# Altium schematic symbol library conn_header_2mm_st.SchLib: 48 symbols
Pins are listed as number, name and electrical type; pins without a type are passive.

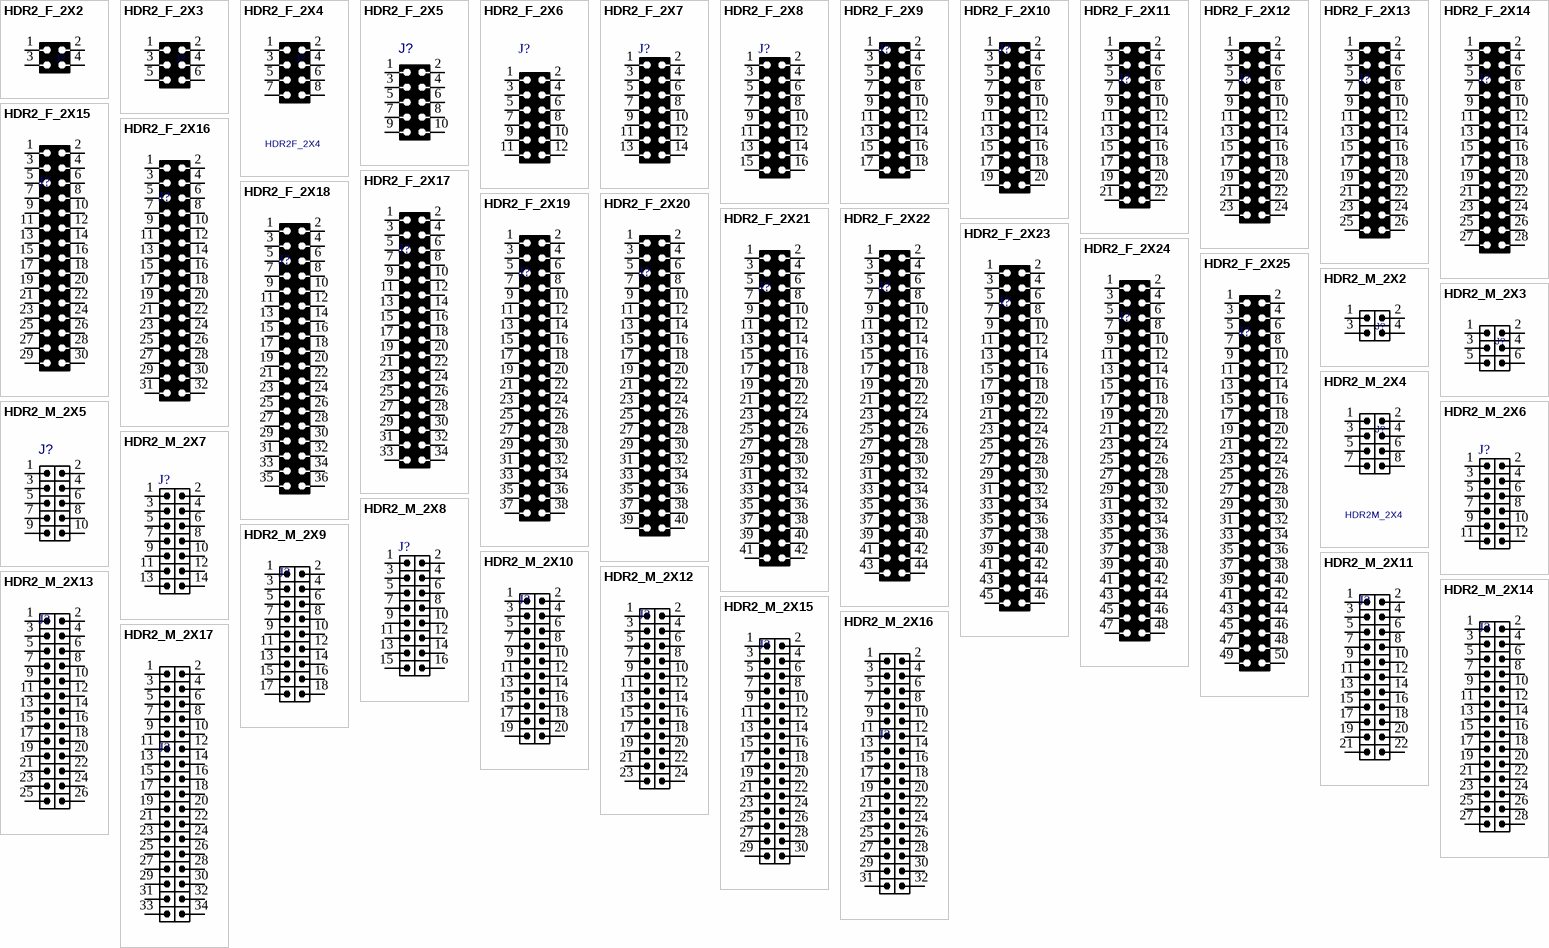
[diagram p0: symbols HDR2_F_2X2 to HDR2_M_2X17]

## HDR2_F_2X2
designator J?, comment HDR2F_2X2  (value not drawn)
CONN, HEADER, Female, pitch: 2mm, 4POS; MANF_P#: MANF_PART#; MANF: MANF; VALUE: HDR2F_2X2
footprint HDR2_F_2X2 (Connector; Header; 2mm Pitch)
pins: 1, 2, 3, 4

## HDR2_F_2X3
designator J?, comment HDR2F_2X3  (value not drawn)
CONN, HEADER, Female, pitch: 2mm, 6POS; MANF_P#: MANF_PART#; MANF: MANF; VALUE: HDR2F_2X3
footprint HDR2_F_2X3 (Connector; Header; 2mm Pitch)
pins: 1, 2, 3, 4, 5, 6

## HDR2_F_2X4
designator J?, comment HDR2F_2X4
CONN, HEADER, Female, pitch: 2mm, 8POS; MANF_P#: MANF_PART#; MANF: MANF; VALUE: HDR2F_2X4
footprint HDR2_F_2X4 (Connector; Header; 2mm Pitch)
pins: 1, 2, 3, 4, 5, 6, 7, 8

## HDR2_F_2X5
designator J?, comment HDR2F_2X5  (value not drawn)
CONN, HEADER, Female, pitch: 2mm, 10POS; VALUE: HDR2F_2X5
footprint HDR2_F_2X5 (Connector; Header; 2mm Pitch)
pins: 1, 2, 3, 4, 5, 6, 7, 8, 9, 10

## HDR2_F_2X6
designator J?, comment HDR2F_2X6  (value not drawn)
CONN, HEADER, Female, pitch: 2mm; VALUE: HDR2F_2X6
footprint HDR2_F_2X6 (Connector; Header; 2mm Pitch)
pins: 1, 2, 3, 4, 5, 6, 7, 8, 9, 10, 11, 12

## HDR2_F_2X7
designator J?, comment HDR2F_2X7  (value not drawn)
CONN, HEADER, Female, pitch: 2mm,; VALUE: HDR2F_2X7
footprint HDR2_F_2X7 (Connector; Header; 2mm Pitch)
pins: 1, 2, 3, 4, 5, 6, 7, 8, 9, 10, 11, 12, 13, 14

## HDR2_F_2X8
designator J?, comment HDR2F_2X8  (value not drawn)
CONN, HEADER, Female, pitch: 2mm, 16POS; VALUE: HDR2F_2X8
footprint HDR2_F_2X8 (Connector; Header; 2mm Pitch)
pins: 1, 2, 3, 4, 5, 6, 7, 8, 9, 10, 11, 12, 13, 14, 15, 16

## HDR2_F_2X9
designator J?, comment HDR2F_2X9  (value not drawn)
CONN, HEADER, Female, pitch: 2mm,; VALUE: HDR2F_2X9
footprint HDR2_F_2X9 (Connector; Header; 2mm Pitch)
pins: 1, 2, 3, 4, 5, 6, 7, 8, 9, 10, 11, 12, 13, 14, 15, 16, 17, 18

## HDR2_F_2X10
designator J?, comment HDR2F_2X10  (value not drawn)
CONN, HEADER, Female, pitch: 2mm, 20POS; VALUE: HDR2F_2X10
footprint HDR2_F_2X10 (Connector; Header; 2mm Pitch)
pins: 1, 2, 3, 4, 5, 6, 7, 8, 9, 10, 11, 12, 13, 14, 15, 16, 17, 18, 19, 20

## HDR2_F_2X11
designator J?, comment HDR2F_2X11  (value not drawn)
CONN, HEADER, Female, pitch: 2mm,; VALUE: HDR2F_2X11
footprint HDR2_F_2X11 (Connector; Header; 2mm Pitch)
pins: 1, 2, 3, 4, 5, 6, 7, 8, 9, 10, 11, 12, 13, 14, 15, 16, 17, 18, 19, 20, 21, 22

## HDR2_F_2X12
designator J?, comment HDR2F_2X12  (value not drawn)
CONN, HEADER, Female, pitch: 2mm,; VALUE: HDR2F_2X12
footprint HDR2_F_2X12 (Connector; Header; 2mm Pitch)
pins: 1, 2, 3, 4, 5, 6, 7, 8, 9, 10, 11, 12, 13, 14, 15, 16, 17, 18, 19, 20, 21, 22, 23, 24

## HDR2_F_2X13
designator J?, comment HDR2F_2X13  (value not drawn)
CONN, HEADER, Female, pitch: 2mm,; VALUE: HDR2F_2X13
footprint HDR2_F_2X13 (Connector; Header; 2mm Pitch)
pins: 1, 2, 3, 4, 5, 6, 7, 8, 9, 10, 11, 12, 13, 14, 15, 16, 17, 18, 19, 20, 21, 22, 23, 24, 25, 26

## HDR2_F_2X14
designator J?, comment HDR2F_2X14  (value not drawn)
CONN, HEADER, Female, pitch: 2mm,; VALUE: HDR2F_2X14
footprint HDR2_F_2X14 (Connector; Header; 2mm Pitch)
pins: 1, 2, 3, 4, 5, 6, 7, 8, 9, 10, 11, 12, 13, 14, 15, 16, 17, 18, 19, 20, 21, 22, 23, 24, 25, 26, 27, 28

## HDR2_F_2X15
designator J?, comment HDR2F_2X15  (value not drawn)
CONN, HEADER, Female, pitch: 2mm, 30POS; VALUE: HDR2F_2X15
footprint HDR2_F_2X15 (Footprint not found)
pins: 1, 2, 3, 4, 5, 6, 7, 8, 9, 10, 11, 12, 13, 14, 15, 16, 17, 18, 19, 20, 21, 22, 23, 24, 25, 26, 27, 28, 29, 30

## HDR2_F_2X16
designator J?, comment HDR2F_2X16  (value not drawn)
CONN, HEADER, Female, pitch: 2mm,; VALUE: HDR2F_2X16
footprint HDR2_F_2X16 (Connector; Header; 2mm Pitch)
pins: 1, 2, 3, 4, 5, 6, 7, 8, 9, 10, 11, 12, 13, 14, 15, 16, 17, 18, 19, 20, 21, 22, 23, 24, 25, 26, 27, 28, 29, 30, 31, 32

## HDR2_F_2X17
designator J?, comment HDR2F_2X17  (value not drawn)
CONN, HEADER, Female, pitch: 2mm,; VALUE: HDR2F_2X17
footprint HDR2_F_2X17 (Connector; Header; 2mm Pitch)
pins: 1, 2, 3, 4, 5, 6, 7, 8, 9, 10, 11, 12, 13, 14, 15, 16, 17, 18, 19, 20, 21, 22, 23, 24, 25, 26, 27, 28, 29, 30, 31, 32, 33, 34

## HDR2_F_2X18
designator J?, comment HDR2F_2X18  (value not drawn)
CONN, HEADER, Female, pitch: 2mm,; VALUE: HDR2F_2X18
footprint HDR2_F_2X18 (Connector; Header; 2mm Pitch)
pins: 1, 2, 3, 4, 5, 6, 7, 8, 9, 10, 11, 12, 13, 14, 15, 16, 17, 18, 19, 20, 21, 22, 23, 24, 25, 26, 27, 28, 29, 30, 31, 32, 33, 34, 35, 36

## HDR2_F_2X19
designator J?, comment HDR2F_2X19  (value not drawn)
CONN, HEADER, Female, pitch: 2mm,; VALUE: HDR2F_2X19
footprint HDR2_F_2X19 (Connector; Header; 2mm Pitch)
pins: 1, 2, 3, 4, 5, 6, 7, 8, 9, 10, 11, 12, 13, 14, 15, 16, 17, 18, 19, 20, 21, 22, 23, 24, 25, 26, 27, 28, 29, 30, 31, 32, 33, 34, 35, 36, 37, 38

## HDR2_F_2X20
designator J?, comment HDR2F_2X20  (value not drawn)
CONN, HEADER, Female, pitch: 2mm,; VALUE: HDR2F_2X20
footprint HDR2_F_2X20 (Connector; Header; 2mm Pitch)
pins: 1, 2, 3, 4, 5, 6, 7, 8, 9, 10, 11, 12, 13, 14, 15, 16, 17, 18, 19, 20, 21, 22, 23, 24, 25, 26, 27, 28, 29, 30, 31, 32, 33, 34, 35, 36, 37, 38, 39, 40

## HDR2_F_2X21
designator J?, comment HDR2F_2X21  (value not drawn)
CONN, HEADER, Female, pitch: 2mm,; VALUE: HDR2F_2X21
footprint HDR2_F_2X21 (Connector; Header; 2mm Pitch)
pins: 1, 2, 3, 4, 5, 6, 7, 8, 9, 10, 11, 12, 13, 14, 15, 16, 17, 18, 19, 20, 21, 22, 23, 24, 25, 26, 27, 28, 29, 30, 31, 32, 33, 34, 35, 36, 37, 38, 39, 40, 41, 42

## HDR2_F_2X22
designator J?, comment HDR2F_2X22  (value not drawn)
CONN, HEADER, Female, pitch: 2mm, 44POS; VALUE: HDR2F_2X22
footprint HDR2_F_2X22 (Connector; Header; 2mm Pitch)
pins: 1, 2, 3, 4, 5, 6, 7, 8, 9, 10, 11, 12, 13, 14, 15, 16, 17, 18, 19, 20, 21, 22, 23, 24, 25, 26, 27, 28, 29, 30, 31, 32, 33, 34, 35, 36, 37, 38, 39, 40, 41, 42, 43, 44

## HDR2_F_2X23
designator J?, comment HDR2F_2X23  (value not drawn)
CONN, HEADER, Female, pitch: 2mm, 46POS; VALUE: HDR2F_2X23
footprint HDR2_F_2X23 (Connector; Header; 2mm Pitch)
pins: 1, 2, 3, 4, 5, 6, 7, 8, 9, 10, 11, 12, 13, 14, 15, 16, 17, 18, 19, 20, 21, 22, 23, 24, 25, 26, 27, 28, 29, 30, 31, 32, 33, 34, 35, 36, 37, 38, 39, 40, 41, 42, 43, 44, 45, 46

## HDR2_F_2X24
designator J?, comment HDR2F_2X24  (value not drawn)
CONN, HEADER, Female, pitch: 2mm,; VALUE: HDR2F_2X24
footprint HDR2_F_2X24 (Connector; Header; 2mm Pitch)
pins: 1, 2, 3, 4, 5, 6, 7, 8, 9, 10, 11, 12, 13, 14, 15, 16, 17, 18, 19, 20, 21, 22, 23, 24, 25, 26, 27, 28, 29, 30, 31, 32, 33, 34, 35, 36, 37, 38, 39, 40, 41, 42, 43, 44, 45, 46, 47, 48

## HDR2_F_2X25
designator J?, comment HDR2F_2X25  (value not drawn)
CONN, HEADER, Female, pitch: 2mm,; VALUE: HDR2F_2X25
footprint HDR2_F_2X25 (Connector; Header; 2mm Pitch)
pins: 1, 2, 3, 4, 5, 6, 7, 8, 9, 10, 11, 12, 13, 14, 15, 16, 17, 18, 19, 20, 21, 22, 23, 24, 25, 26, 27, 28, 29, 30, 31, 32, 33, 34, 35, 36, 37, 38, 39, 40, 41, 42, 43, 44, 45, 46, 47, 48, 49, 50

## HDR2_M_2X2
designator J?, comment HDR2M_2X2  (value not drawn)
CONN, HEADER, Male, pitch: 2mm, 4POS; MANF_P#: MANF_PART#; MANF: MANF; VALUE: HDR2M_2X2
footprint HDR2_M_2X2 (Connector; Header; 2mm Pitch)
pins: 1, 2, 3, 4

## HDR2_M_2X3
designator J?, comment HDR2M_2X3  (value not drawn)
CONN, HEADER, Male, pitch: 2mm, 6POS; MANF_P#: MANF_PART#; MANF: MANF; VALUE: HDR2M_2X3
footprint HDR2_M_2X3 (Connector; Header; 2mm Pitch)
pins: 1, 2, 3, 4, 5, 6

## HDR2_M_2X4
designator J?, comment HDR2M_2X4
CONN, HEADER, Male, pitch: 2mm, 8POS; MANF_P#: MANF_PART#; MANF: MANF; VALUE: HDR2M_2X4
footprint HDR2_M_2X4 (Connector; Header; 2mm Pitch)
pins: 1, 2, 3, 4, 5, 6, 7, 8

## HDR2_M_2X5
designator J?, comment HDR2M_2X5  (value not drawn)
CONN, HEADER, Male, pitch: 2mm, 10POS; VALUE: HDR2M_2X5
footprint HDR2_M_2X5 (Connector; Header; 2mm Pitch)
pins: 1, 2, 3, 4, 5, 6, 7, 8, 9, 10

## HDR2_M_2X6
designator J?, comment HDR2M_2X6  (value not drawn)
CONN, HEADER, Male, pitch: 2mm,; VALUE: HDR2M_2X6
footprint HDR2_M_2X6 (Connector; Header; 2mm Pitch)
pins: 1, 2, 3, 4, 5, 6, 7, 8, 9, 10, 11, 12

## HDR2_M_2X7
designator J?, comment HDR2M_2X7  (value not drawn)
CONN, HEADER, Male, pitch: 2mm,; VALUE: HDR2M_2X7
footprint HDR2_M_2X7 (Connector; Header; 2mm Pitch)
pins: 1, 2, 3, 4, 5, 6, 7, 8, 9, 10, 11, 12, 13, 14

## HDR2_M_2X8
designator J?, comment HDR2M_2X8  (value not drawn)
CONN, HEADER, Male, pitch: 2mm, 16POS; VALUE: HDR2M_2X8
footprint HDR2_M_2X8 (Connector; Header; 2mm Pitch)
pins: 1, 2, 3, 4, 5, 6, 7, 8, 9, 10, 11, 12, 13, 14, 15, 16

## HDR2_M_2X9
designator J?, comment HDR2M_2X9  (value not drawn)
CONN, HEADER, Male, pitch: 2mm,; VALUE: HDR2M_2X9
footprint HDR2_M_2X9 (Connector; Header; 2mm Pitch)
pins: 1, 2, 3, 4, 5, 6, 7, 8, 9, 10, 11, 12, 13, 14, 15, 16, 17, 18

## HDR2_M_2X10
designator J?, comment HDR2M_2X10  (value not drawn)
CONN, HEADER, Male, pitch: 2mm, 20POS; VALUE: HDR2M_2X10
footprint HDR2_M_2X10 (Connector; Header; 2mm Pitch)
pins: 1, 2, 3, 4, 5, 6, 7, 8, 9, 10, 11, 12, 13, 14, 15, 16, 17, 18, 19, 20

## HDR2_M_2X11
designator J?, comment HDR2M_2X11  (value not drawn)
CONN, HEADER, Male, pitch: 2mm,; VALUE: HDR2M_2X11
footprint HDR2_M_2X11 (Connector; Header; 2mm Pitch)
pins: 1, 2, 3, 4, 5, 6, 7, 8, 9, 10, 11, 12, 13, 14, 15, 16, 17, 18, 19, 20, 21, 22

## HDR2_M_2X12
designator J?, comment HDR2M_2X12  (value not drawn)
CONN, HEADER, Male, pitch: 2mm,; VALUE: HDR2M_2X12
footprint HDR2_M_2X12 (Connector; Header; 2mm Pitch)
pins: 1, 2, 3, 4, 5, 6, 7, 8, 9, 10, 11, 12, 13, 14, 15, 16, 17, 18, 19, 20, 21, 22, 23, 24

## HDR2_M_2X13
designator J?, comment HDR2M_2X13  (value not drawn)
CONN, HEADER, Male, pitch: 2mm,; VALUE: HDR2M_2X13
footprint HDR2_M_2X13 (Connector; Header; 2mm Pitch)
pins: 1, 2, 3, 4, 5, 6, 7, 8, 9, 10, 11, 12, 13, 14, 15, 16, 17, 18, 19, 20, 21, 22, 23, 24, 25, 26

## HDR2_M_2X14
designator J?, comment HDR2M_2X14  (value not drawn)
CONN, HEADER, Male, pitch: 2mm,; VALUE: HDR2M_2X14
footprint HDR2_M_2X14 (Connector; Header; 2mm Pitch)
pins: 1, 2, 3, 4, 5, 6, 7, 8, 9, 10, 11, 12, 13, 14, 15, 16, 17, 18, 19, 20, 21, 22, 23, 24, 25, 26, 27, 28

## HDR2_M_2X15
designator J?, comment HDR2M_2X15  (value not drawn)
CONN, HEADER, Male, pitch: 2mm, 30POS; VALUE: HDR2M_2X15
footprint HDR2_M_2X15 (Connector; Header; 2mm Pitch)
pins: 1, 2, 3, 4, 5, 6, 7, 8, 9, 10, 11, 12, 13, 14, 15, 16, 17, 18, 19, 20, 21, 22, 23, 24, 25, 26, 27, 28, 29, 30

## HDR2_M_2X16
designator J?  (value not drawn)
CONN, HEADER, Male, pitch: 2mm,; VALUE: HDR2_M_2X16
footprint HDR2_M_2X16 (Connector; Header; 16x2 Position; 2mm Pitch)
pins: 1, 2, 3, 4, 5, 6, 7, 8, 9, 10, 11, 12, 13, 14, 15, 16, 17, 18, 19, 20, 21, 22, 23, 24, 25, 26, 27, 28, 29, 30, 31, 32

## HDR2_M_2X17
designator J?  (value not drawn)
CONN, HEADER, Male, pitch: 2mm,; VALUE: HDR2_M_2X17
footprint HDR2_M_2X17 (Connector; Header; 2mm Pitch)
pins: 1, 2, 3, 4, 5, 6, 7, 8, 9, 10, 11, 12, 13, 14, 15, 16, 17, 18, 19, 20, 21, 22, 23, 24, 25, 26, 27, 28, 29, 30, 31, 32, 33, 34

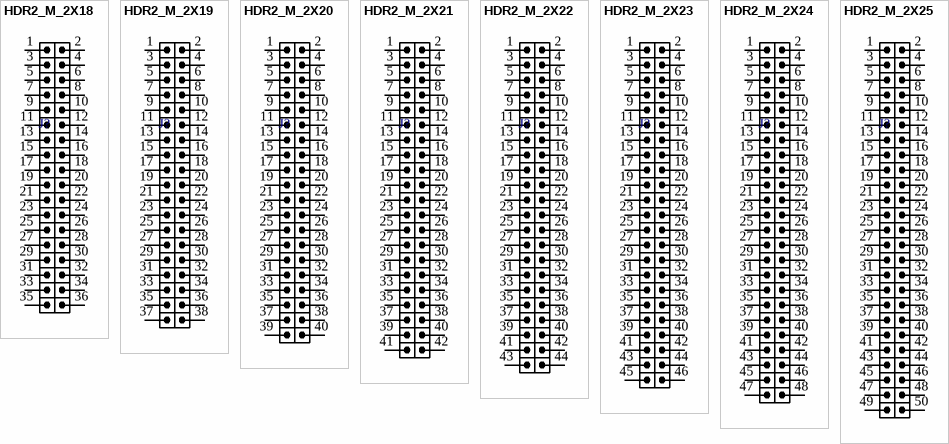
[diagram p1: symbols HDR2_M_2X18 to HDR2_M_2X25]

## HDR2_M_2X18
designator J?  (value not drawn)
CONN, HEADER, Male, pitch: 2mm,; VALUE: HDR2_M_2X18
footprint HDR2_M_2X18 (Connector; Header; 2mm Pitch)
pins: 1, 2, 3, 4, 5, 6, 7, 8, 9, 10, 11, 12, 13, 14, 15, 16, 17, 18, 19, 20, 21, 22, 23, 24, 25, 26, 27, 28, 29, 30, 31, 32, 33, 34, 35, 36

## HDR2_M_2X19
designator J?  (value not drawn)
CONN, HEADER, Male, pitch: 2mm,; VALUE: HDR2_M_2X19
footprint HDR2_M_2X19 (Connector; Header; 2mm Pitch)
pins: 1, 2, 3, 4, 5, 6, 7, 8, 9, 10, 11, 12, 13, 14, 15, 16, 17, 18, 19, 20, 21, 22, 23, 24, 25, 26, 27, 28, 29, 30, 31, 32, 33, 34, 35, 36, 37, 38

## HDR2_M_2X20
designator J?  (value not drawn)
CONN, HEADER, Male, pitch: 2mm,; VALUE: HDR2_M_2X20
footprint HDR2_M_2X20 (Connector; Header; 20x2 Position; 2mm Pitch)
pins: 1, 2, 3, 4, 5, 6, 7, 8, 9, 10, 11, 12, 13, 14, 15, 16, 17, 18, 19, 20, 21, 22, 23, 24, 25, 26, 27, 28, 29, 30, 31, 32, 33, 34, 35, 36, 37, 38, 39, 40

## HDR2_M_2X21
designator J?  (value not drawn)
CONN, HEADER, Male, pitch: 2mm,; VALUE: HDR2_M_2X21
footprint HDR2_M_2X21 (Connector; Header; 21x2 Position; 2mm Pitch)
pins: 1, 2, 3, 4, 5, 6, 7, 8, 9, 10, 11, 12, 13, 14, 15, 16, 17, 18, 19, 20, 21, 22, 23, 24, 25, 26, 27, 28, 29, 30, 31, 32, 33, 34, 35, 36, 37, 38, 39, 40, 41, 42

## HDR2_M_2X22
designator J?  (value not drawn)
CONN, HEADER, Male, pitch: 2mm, 44POS; VALUE: HDR2_M_2X22
footprint HDR2_M_2X22 (Connector; Header; 22x2 Position; 2mm Pitch)
pins: 1, 2, 3, 4, 5, 6, 7, 8, 9, 10, 11, 12, 13, 14, 15, 16, 17, 18, 19, 20, 21, 22, 23, 24, 25, 26, 27, 28, 29, 30, 31, 32, 33, 34, 35, 36, 37, 38, 39, 40, 41, 42, 43, 44

## HDR2_M_2X23
designator J?  (value not drawn)
CONN, HEADER, Male, pitch: 2mm, 46POS; VALUE: HDR2_M_2X23
footprint HDR2_M_2X23 (Connector; Header; 23x2 Position; 2mm Pitch)
pins: 1, 2, 3, 4, 5, 6, 7, 8, 9, 10, 11, 12, 13, 14, 15, 16, 17, 18, 19, 20, 21, 22, 23, 24, 25, 26, 27, 28, 29, 30, 31, 32, 33, 34, 35, 36, 37, 38, 39, 40, 41, 42, 43, 44, 45, 46

## HDR2_M_2X24
designator J?  (value not drawn)
CONN, HEADER, Male, pitch: 2mm, 48POS; VALUE: HDR2_M_2X24
footprint HDR2_M_2X24 (Connector; Header; 24x2 Position; 2mm Pitch)
pins: 1, 2, 3, 4, 5, 6, 7, 8, 9, 10, 11, 12, 13, 14, 15, 16, 17, 18, 19, 20, 21, 22, 23, 24, 25, 26, 27, 28, 29, 30, 31, 32, 33, 34, 35, 36, 37, 38, 39, 40, 41, 42, 43, 44, 45, 46, 47, 48

## HDR2_M_2X25
designator J?  (value not drawn)
CONN, HEADER, Male, pitch: 2mm, 50POS; VALUE: HDR2_M_2X25
footprint HDR2_M_2X25 (Connector; Header; 25x2 Position; 2mm Pitch)
pins: 1, 2, 3, 4, 5, 6, 7, 8, 9, 10, 11, 12, 13, 14, 15, 16, 17, 18, 19, 20, 21, 22, 23, 24, 25, 26, 27, 28, 29, 30, 31, 32, 33, 34, 35, 36, 37, 38, 39, 40, 41, 42, 43, 44, 45, 46, 47, 48, 49, 50